# EAGLE library part MP34DT05TR-A (library MP34DT05TR-A_v1)
STMICROELECTRONICS - MP34DT05TR-A - MEMS MICROPHONE, 3.6V, HCLGA-4 Source: Datasheet <http://www.st.com/content/ccc/resource/technical/document/datasheet/group3/c7/90/d3/f6/b7/e7/40/c8/DM00415595/files/DM00415595.pdf/jcr:content/translations/en.DM00415595.pdf>
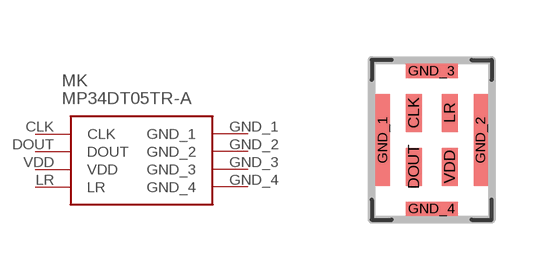
[diagram p0: symbol with the pads of MP34DT05TRA; footprint MP34DT05TRA]

Designator prefix MK

## MP34DT05TR-A (DESCRIPTION: STMICROELECTRONICS - MP34DT05TR-A - MEMS MICROPHONE, 3.6V, HCLGA-4; HEIGHT: 1mm; MANUFACTURER_NAME: STMicroelectronics; MANUFACTURER_PART_NUMBER: MP34DT05TR-A; MOUSER_PART_NUMBER: 511-MP34DT05TR-A; MOUSER_PRICE-STOCK: https://www.mouser.co.uk/ProductDetail/STMicroelectronics/MP34DT05TR-A?qs=BZBei1rCqCAMJfcA0UxAnA%3D%3D)  [MP34DT05TRA]
CLK  CLK
DOUT  DOUT
GND_1  GND_1
GND_2  GND_2
GND_3  GND_3
GND_4  GND_4
LR  LR
VDD  VDD

## Footprint MP34DT05TRA (pad centres in mm)
HCLGA (3 x 4 x 1 mm)
smd 0.4 x 0.95: CLK -0.45,0.675; DOUT -0.45,-0.675; LR 0.45,0.675; VDD 0.45,-0.675
smd 0.35 x 2.3: GND_1 -1.225,0; GND_2 1.225,0
smd 1.3 x 0.35: GND_3 0,1.725; GND_4 0,-1.725